# EAGLE library part TPS61222 (library untitled1)
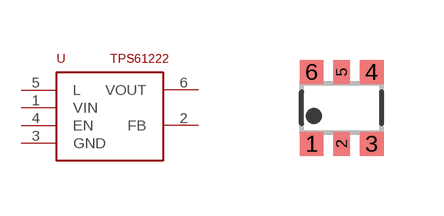
[diagram p1: symbol with the pads of SOT-363; footprint SOT-363]

Designator prefix -

## TPS61222  [SOT-363]
1  VIN  pwr
2  FB
3  GND  pwr
4  EN
5  L
6  VOUT  pwr

## Footprint SOT-363 (pad centres in mm)
smd 0.6 x 0.6: 1 -2.02,-0.9; 3 -0.52,-0.9; 4 -0.52,0.9; 6 -2.02,0.9
smd 0.4 x 0.6: 2 -1.27,-0.9; 5 -1.27,0.9